# Altium footprint library DIP794W45P254L1969H508Q14.PcbLib: 1 footprints
Each footprint in its own frame and in the unit in brackets; x right, y up, seen from the top. Pads: shape width x height; smd on the part's side, far side on the other; paste and mask are expansions set on the pad; w line width, h text height; cw(c..) or ccw(c..) is an arc to the next point about the centre after c.
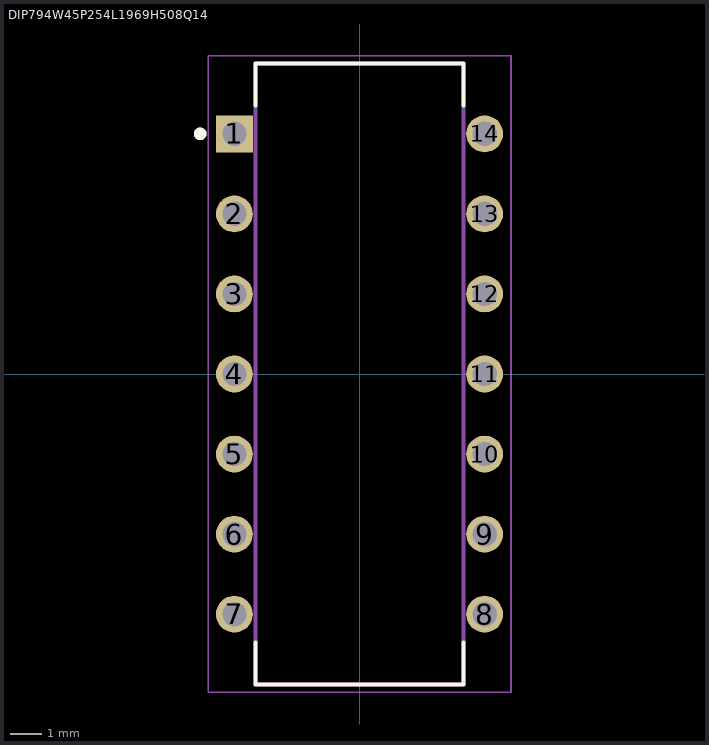
[diagram p0: the footprint, top view; thin cyan lines are the x and y axes]

## DIP794W45P254L1969H508Q14 [mm]
pads (14):
  rect 1.17x1.17 / inner round 1.17 / far side rect 1.17x1.17 hole 0.77: 1(-3.97,7.62)
  round 1.17 hole 0.77: 2(-3.97,5.08) 3(-3.97,2.54) 4(-3.97,0) 5(-3.97,-2.54) 6(-3.97,-5.08) 7(-3.97,-7.62) 8(3.97,-7.62) 9(3.97,-5.08) 10(3.97,-2.54) 11(3.97,0) 12(3.97,2.54) 13(3.97,5.08) 14(3.97,7.62)
Top Overlay:
  circle w0.2: c-5.055,7.62 r0.1
  lines w0.127: -3.3,-8.525 -3.3,-9.845 3.3,-9.845 3.3,-8.525 ; -3.3,8.525 -3.3,9.845 3.3,9.845 3.3,8.525
Assembly Top:
  circle w0.2: c-5.055,7.62 r0.1
  lines w0.127: -3.3,-9.845 3.3,-9.845 3.3,9.845 -3.3,9.845 -3.3,-9.845
Courtyard Top:
  lines w0.05: -4.805,-10.095 4.805,-10.095 4.805,10.095 -4.805,10.095 -4.805,-10.095
3D body "step_temp.STEP": height 5.08, standoff -3.18, extent -3.935,-9.653 3.935,9.653